# EAGLE library part TEENSYLC (library Teensy lc)
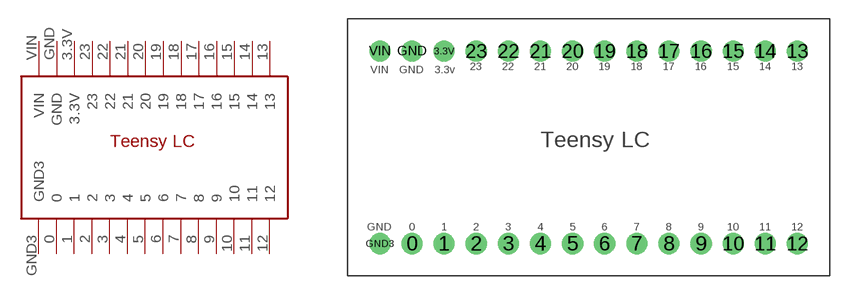
[diagram p0: symbol with the pads of TEENSYLC; footprint TEENSYLC]

Designator prefix -

## TEENSYLC  [TEENSYLC]
0  0
1  1
2  2
3  3
3.3V  3.3V
4  4
5  5
6  6
7  7
8  8
9  9
10  10
11  11
12  12
13  13
14  14
15  15
16  16
17  17
18  18
19  19
20  20
21  21
22  22
23  23
GND  GND
GND3  GND3
VIN  VIN

## Footprint TEENSYLC (pad centres in mm)
drill 1 pad 1.676: 0 5.08,0; 1 7.62,0; 2 10.16,0; 3 12.7,0; 3.3V 7.62,15.24; 4 15.24,0; 5 17.78,0; 6 20.32,0; 7 22.86,0; 8 25.4,0; 9 27.94,0; 10 30.48,0; 11 33.02,0; 12 35.56,0; 13 35.56,15.24; 14 33.02,15.24; 15 30.48,15.24; 16 27.94,15.24; 17 25.4,15.24; 18 22.86,15.24; 19 20.32,15.24; 20 17.78,15.24; 21 15.24,15.24; 22 12.7,15.24; 23 10.16,15.24; GND 5.08,15.24; GND3 2.54,0; VIN 2.54,15.24